# EAGLE library part 20021321-00012 (library all-connectors)
20021321-00012 Amphenol FCI Minitek127® Board to Board connectors, PCB mounted Receptacle, Vertical, Surface Mount, Double Row, 12 Positions, 1.27mm (0.05inch) pitch
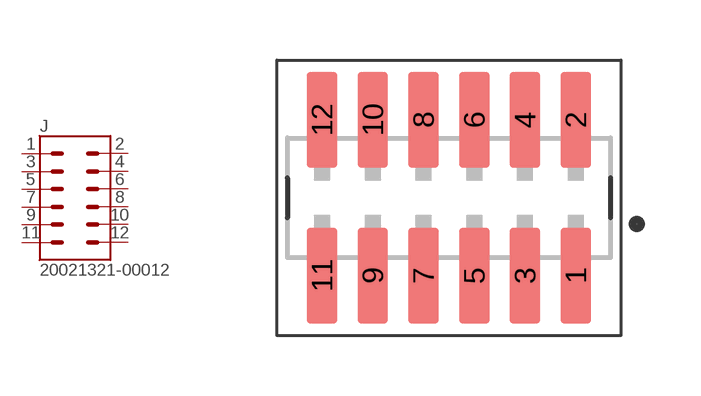
[diagram p11: symbol with the pads of FE06-2_SMD_1.27MM; footprint FE06-2_SMD_1.27MM]

Designator prefix J

## 20021321-00012  [FE06-2_SMD_1.27MM]
1  1  pas
2  2  pas
3  3  pas
4  4  pas
5  5  pas
6  6  pas
7  7  pas
8  8  pas
9  9  pas
10  10  pas
11  11  pas
12  12  pas

## Footprint FE06-2_SMD_1.27MM (pad centres in mm)
smd 0.76 x 2.4: 1 3.175,-1.95; 2 3.175,1.95; 3 1.905,-1.95; 4 1.905,1.95; 5 0.635,-1.95; 6 0.635,1.95; 7 -0.635,-1.95; 8 -0.635,1.95; 9 -1.905,-1.95; 10 -1.905,1.95; 11 -3.175,-1.95; 12 -3.175,1.95